# Altium integrated library TI Audio CODEC.IntLib: 199 symbols (part 8 of 17)
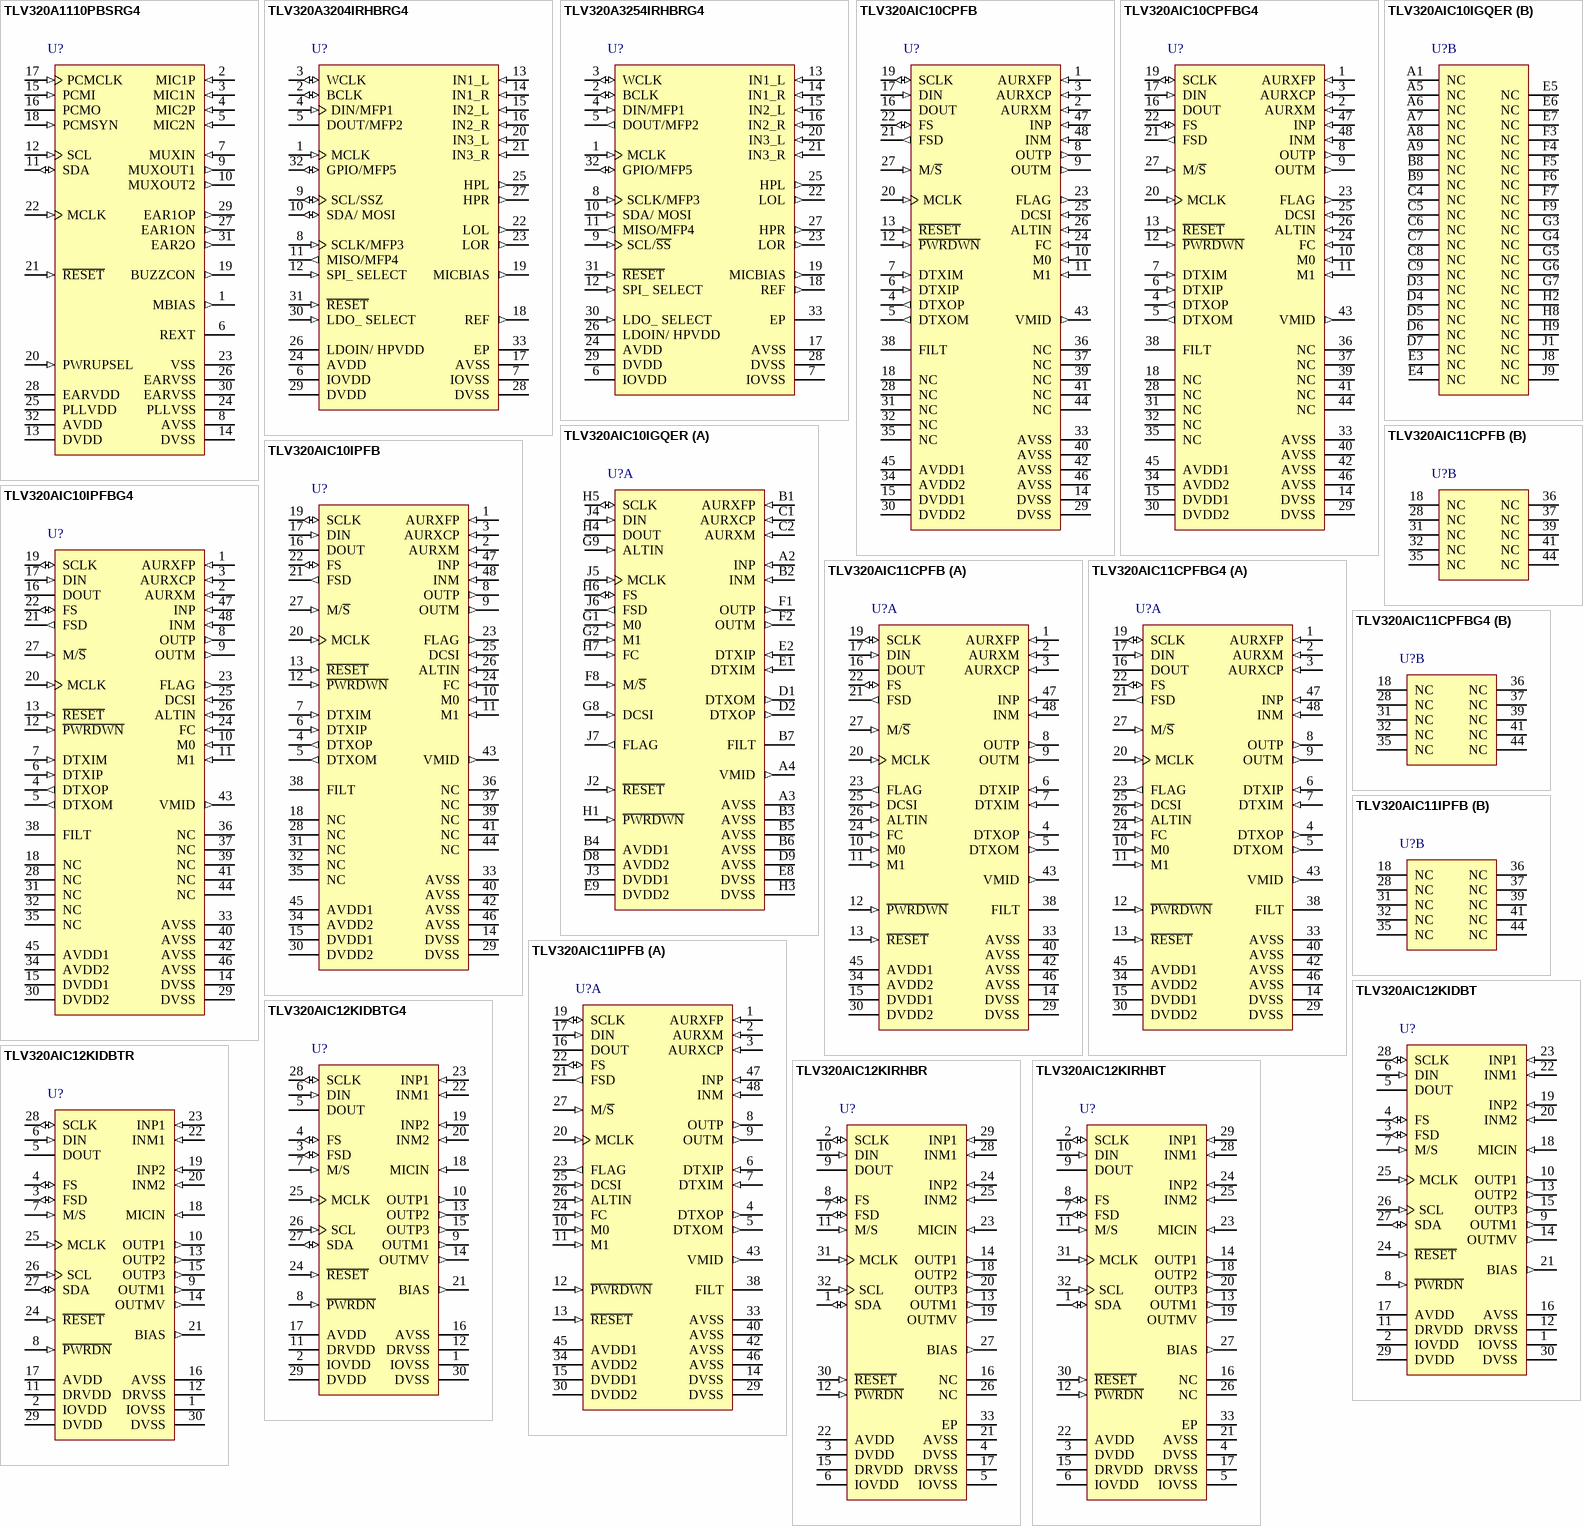
[diagram p20: symbols TLV320A1110PBSRG4 to TLV320AIC12KIRHBT]

## TLV320A1110PBSRG4
designator U?
Programmable PCM CODEC with Microphone Amps & Speaker Driver, 1 ADC and 1 DAC, -40 to 85 degC, 32-pin TQFP (PBS), Green (RoHS & no Sb/Br); Manufacturer: Texas Instruments; PartNumber: TLV320A1110PBSRG4; # ADCs (typ): 1; Additional Features: A-Law, u-Law; Battery Powered: TRUE; Control Interface: I2C; Sampling Rate (Max) (kHz): 8; DatasheetVersion: SLAS359; PackageVersion: Nov-1995; PackageReference: PBS32; PackageDescription: 32-Pin Thin Plastic Quad Flat Pack 0.5 mm Pitch; Supplier 1: Digi-Key; Supplier Part Number 1: TLV320A1110PBSRG4-ND; Supplier 2: Newark; Supplier Part Number 2: 33K7377; Supplier 3: Mouser; Supplier Part Number 3: 595-TLV320A1110PBSRG; # DACs: 1; Digital Audio Interfaces: PCM; Headphone Driver: TRUE; Mounting Technology: Surface Mount; Code_JEDEC: MS-026-AAA; ComponentLink1Description: Datasheet; ComponentLink1URL: http://www.ti.com/general/docs/lit/getliterature.tsp?genericPartNumber=TLV320AIC1110&fileType=pdf
footprint PBS32_N (Thin QFP, 32-Leads, Body 5x5mm, Pitch 0.5mm, IPC Medium Density)
footprint PBS32_L (Thin QFP, 32-Leads, Body 5x5mm, Pitch 0.5mm, IPC High Density)
footprint PBS32_M (Thin QFP, 32-Leads, Body 5x5mm, Pitch 0.5mm, IPC Low Density)
pins: 1 MBIAS (out) "Microphone bias supply output, no decoupling capacitors", 2 MIC1P (in) "MIC1 input (+)", 3 MIC1N (in) "MIC1 input (-)", 4 MIC2P (in) "MIC2 input (+)", 5 MIC2N (in) "MIC2 input (-)", 6 REXT "Internal reference current setting terminal (use precision 100-k ohm resistor and no filtering capacitors)", 7 MUXIN (in) "Analog MUX input", 8 AVSS (power) "Analog negative power supply (use for ground connection)", 9 MUXOUT1 (out) "Analog MUX output", 10 MUXOUT2 (out) "Analog MUX output", 11 SDA (io) "I2C-bus serial address/data input/output. This is a bidirectional terminal used to transfer register control addresses and data into and out of the codec. It is an open-drain terminal and therefore requires a pullup resistor (See Datasheet)", 12 SCL (in) "I2C-bus serial clock. This input is used to synchronize the data transfer from and to the PCM codec.", 13 DVDD (power) "Digital positive power supply", 14 DVSS (power) "Digital negative power supply", 15 PCMI (in) "Receive PCM input", 16 PCMO (hiz) "Transmit PCM output", 17 PCMCLK (in) "PCM data clock", 18 PCMSYN (in) "PCM frame sync", 19 BUZZCON (out) "Buzzer output, a pulse-density modulated signal to apply to external buzzer driver", 20 PWRUPSEL (in) "Selects the power-up default mode", 21 ~{RESET} (in) "Active low reset", 22 MCLK (in) "Master system clock input (2.048 MHz, digital)", 23 VSS (power) "Ground return for bandgap internal reference (use for ground connection)", 24 PLLVSS (power) "PLL negative power supply", 25 PLLVDD (power) "PLL digital power supply", 26 EARVSS (power) "Analog negative power supply for the earphone amplifiers", 27 EAR1ON (out) "Earphone 1 amplifier output (-)", 28 EARVDD (power) "Analog positive power supply for the earphone amplifiers", 29 EAR1OP (out) "Earphone 1 amplifier output (+)", 30 EARVSS (power) "Analog negative power supply for the earphone amplifiers", 31 EAR2O (out) "Earphone 2 amplifier output", 32 AVDD (power) "Analog positive power supply"

## TLV320A3204IRHBRG4
designator U?
Very Low-Power Stereo Audio CODEC with Power Tune™ Technology, 2 ADCs and 2 DACs, 100 dB DAC SNR, -40 to 85 degC, 32-pin QFN (RHB), Green (RoHS & no Sb/Br); Manufacturer: Texas Instruments; PartNumber: TLV320A3204IRHBRG4; # ADCs (typ): 2; Additional Features: PowerTune (tm), Processing blocks for digital audio effects, LP Bypass, PLL, Digital Mic Support, LDO; Battery Powered: TRUE; Control Interface: SPI, I2C; DAC SNR: 100; Digital Audio Interfaces: L, R, I2S, TDM, DSP; Sampling Rate (Max) (kHz): 192; DatasheetVersion: SLOS602A; PackageVersion: revD, Jun-2011; PackageReference: RHB32-3450X3450TP; PackageDescription: 32-Pin Plastic Quad Flat No-Lead, 5 x 5 mm Body, 0.5 mm Pitch, 3.45 x 3.45 mm Exposed Pad; Supplier 1: Digi-Key; Supplier Part Number 1: TLV320A3204IRHBRG4-ND; Supplier 2: Newark; Supplier Part Number 2: 34P6429; Supplier 3: Mouser; Supplier Part Number 3: 595-V320A3204IRHBRG4; # DACs: 2; Mounting Technology: Surface Mount; Code_JEDEC: MO-220; ComponentLink1Description: Datasheet; ComponentLink1URL: http://www.ti.com/general/docs/lit/getliterature.tsp?genericPartNumber=TLV320AIC3204&fileType=pdf
footprint RHB32-3450X3450TP (QFN, 32-Leads, Body 5x5mm, Pitch 0.5mm, Thermal Pad 3.45x3.45mm, TI Recommended)
pins: 1 MCLK (in) "Master Clock Input", 2 BCLK (io) "Audio serial data bus (primary) bit clock", 3 WCLK (io) "Audio serial data bus (primary) word clock", 4 DIN/MFP1 (in) "Primary function:Audio serial data bus data input;Secondary function:Audio serial data bus (secondary) bit clock input,Audio serial data bus (secondary) word clock input,Digital Microphone Input,Clock Input,General Purpose (See Datasheet)", 5 DOUT/MFP2 (hiz) "Primary:Audio serial data bus data output;Secondary:General Purpose Output,Clock Output,INT1 Output,INT2 Output,Audio serial data bus (secondary) bit clock output,Audio serial data bus (secondary) word clock output", 6 IOVDD (power) "I/O voltage supply 1.1V - 3.6V", 7 IOVSS (power) "I/O ground supply", 8 SCLK/MFP3 (in) "Primary (SPI_Select = 1):SPI serial clock;Secondary: (SPI_Select = 0):Headset-detect input,Digital microphone input,Audio serial data bus (secondary) bit clock input,Audio serial data bus (secondary) DAC/common word clock (See Datasheet)", 9 SCL/SSZ (io) "I2C interface serial clock (SPI_Select = 0);SPI interface mode chip-select signal (SPI_Select = 1)", 10 SDA/ MOSI (io) "I2C interface mode serial data input (SPI_Select = 0);SPI interface mode serial data input (SPI_Select = 1)", 11 MISO/MFP4 (out) "Primary (SPI_Select = 1):Serial data output;Secondary (SPI_Select = 0):General purpose output,CLKOUT output,INT1 output,INT2 output,Audio serial data bus (primary) ADC word clock output,Digital microphone clock output,Audio (See Datasheet)", 12 SPI_ SELECT (in) "Control mode select pin ( 1 = SPI, 0 = I2C )", 13 IN1_L (in) "Multifunction Analog Input,or Single-ended configuration: MIC 1 or Line 1 left or Differential configuration: MIC or Line right, negative", 14 IN1_R (in) "Multifunction Analog Input,or Single-ended configuration: MIC 1 or Line 1 right or Differential configuration: MIC or Line right, positive", 15 IN2_L (in) "Multifunction Analog Input,or Single-ended configuration: MIC 2 or Line 2 right or Differential configuration: MIC or Line left, positive", 16 IN2_R (in) "Multifunction Analog Input,or Single-ended configuration: MIC 2 or Line 2 right or Differential configuration: MIC or Line left,negtive", 17 AVSS (power) "Analog ground supply", 18 REF (out) "Reference voltage output for filtering", 19 MICBIAS (out) "Microphone bias voltage output", 20 IN3_L (in) "Multifunction Analog Input,or Single-ended configuration: MIC 3 or Line 3 left or Differential configuration: MIC or Line left,positive,or Differential configuration: MIC or Line right, negative", 21 IN3_R (in) "Multifunction Analog Input,or Single-ended configuration: MIC 3 or Line 3 right or Differential configuration: MIC or Line left,negative,or Differential configuration: MIC or Line right,positive", 22 LOL (out) "Left line output", 23 LOR (out) "Right line output", 24 AVDD (power) "Analog voltage supply 1.5V-1.95V,Input when A-LDO disabled,,Filtering output when A-LDO enabled", 25 HPL (out) "Left high power output driver", 26 LDOIN/ HPVDD (power) "LDO Input supply and Headphone Power supply 1.9V- 3.6V", 27 HPR (out) "Right high power output driver", 28 DVSS (power) "Digital Ground and Chip-substrate", 29 DVDD (power) "If LDO_SELECT Pin = 0 (D-LDO disabled),Digital voltage supply 1.26V - 1.95V;If LDO_SELECT Pin = 1 (D-LDO enabled),Digital voltage supply filtering output", 30 LDO_ SELECT (in) "connect to DVss.", 31 ~{RESET} (in) "Reset (active low)", 32 GPIO/MFP5 (io) "Primary:General Purpose digital IO;Secondary:CLKOUT Output,INT1 Output,INT2 Output,Audio serial data bus ADC word clock output,Audio serial data bus (secondary) bit clock output,Audio serial data bus (secondary) word clock (See Datasheet)", 33 EP "Exposed Thermal Pad"

## TLV320A3254IRHBRG4
designator U?
Very Low-Power Stereo Audio CODEC with miniDSP and Power Tune™ Technology, 2 ADCs and 2 DACs, 100 dB DAC SNR, -40 to 85 degC, 32-pin QFN (RHB), Green (RoHS & no Sb/Br); Manufacturer: Texas Instruments; PartNumber: TLV320A3254IRHBRG4; # ADCs (typ): 2; Additional Features: MiniDSP, PowerTune (tm), LP Bypass, PLL, Digital Mic Support, LDO (for single supply operation up to 3.6V); Battery Powered: TRUE; Control Interface: SPI, I2C; DAC SNR: 100; Digital Audio Interfaces: L, R, I2S, TDM, DSP; Sampling Rate (Max) (kHz): 192; DatasheetVersion: SLAS549B; PackageVersion: revD, Jun-2011; PackageReference: RHB32-3450X3450TP; PackageDescription: 32-Pin Plastic Quad Flat No-Lead, 5 x 5 mm Body, 0.5 mm Pitch, 3.45 x 3.45 mm Exposed Pad; Supplier 1: Digi-Key; Supplier Part Number 1: TLV320A3254IRHBRG4-ND; Supplier 2: Newark; Supplier Part Number 2: 34P6430; Supplier 3: Mouser; Supplier Part Number 3: 595-V320A3254IRHBRG4; # DACs: 2; Mounting Technology: Surface Mount; Code_JEDEC: MO-220; ComponentLink1Description: Datasheet; ComponentLink1URL: http://www.ti.com/general/docs/lit/getliterature.tsp?genericPartNumber=TLV320AIC3254&fileType=pdf
footprint RHB32-3450X3450TP (QFN, 32-Leads, Body 5x5mm, Pitch 0.5mm, Thermal Pad 3.45x3.45mm, TI Recommended)
pins: 1 MCLK (in) "Master Clock Input", 2 BCLK (io) "Audio serial data bus (primary) bit clock", 3 WCLK (io) "Audio serial data bus (primary) word clock", 4 DIN/MFP1 (in) "Primary function: Audio serial data bus data input. Secondary function:Audio serial data bus (secondary) bit clock input;Audio serial data bus (secondary) word clock input; Digital Microphone Input; Clock Input; General (See Datasheet)", 5 DOUT/MFP2 (out) "Primary: Audio serial data bus data output. Secondary: General Purpose Output; Clock Output; INT1 Output; INT2 Output; Audio serial data bus (secondary) bit clock output; Audio serial data bus (secondary) word clock output.", 6 IOVDD (power) "I/O voltage supply 1.1V - 3.6V", 7 IOVSS (power) "I/O ground supply", 8 SCLK/MFP3 (in) "Primary (SPI_Select = 1): SPI serial clock. Secondary(SPI_Select = 0): Headset-detect input; Digital microphone input; Audio serial data bus (secondary) bit clock input ;Audio serial data bus (secondary) DAC/common word (See Datasheet)", 9 SCL/~{SS} (in) "I2C interface serial clock (SPI_Select = 0);SPI interface mode chip-select signal (SPI_Select = 1)", 10 SDA/ MOSI (in) "I2C interface mode serial data input (SPI_Select = 0); SPI interface mode serial data input (SPI_Select = 1)", 11 MISO/MFP4 (out) "Primary (SPI_Select = 1): Serial data output.Secondary (SPI_Select = 0): General purpose output; CLKOUT output; INT1 output ;INT2 output; Audio serial data bus (primary) ADC word clock output ;Digital microphone clock output (See Datasheet)", 12 SPI_ SELECT (in) "Control mode select pin ( 1 = SPI, 0 = I2C )", 13 IN1_L (in) "Multifunction Analog Input, or Single-ended configuration: MIC 1 or Line 1 left or Differential configuration: MIC or Line right, negative", 14 IN1_R (in) "Multifunction Analog Input, or Single-ended configuration: MIC 1 or Line 1 right or Differential configuration: MIC or Line right, positive", 15 IN2_L (in) "Multifunction Analog Input, or Single-ended configuration: MIC 2 or Line 2 right or Differential configuration: MIC or Line left, positive", 16 IN2_R (in) "Multifunction Analog Input, or Single-ended configuration: MIC 2 or Line 2 right or Differential configuration: MIC or Line left, negative", 17 AVSS (power) "Analog ground supply", 18 REF (out) "Reference voltage output for filtering", 19 MICBIAS (out) "Microphone bias voltage output", 20 IN3_L (in) "Multifunction Analog Input, or Single-ended configuration: MIC3 or Line 3 left, or Differential configuration: MIC or Line left, positive, or Differential configuration: MIC or Line right, negative", 21 IN3_R (in) "Multifunction Analog Input, or Single-ended configuration: MIC3 or Line 3 right, or Differential configuration: MIC or Line left, negative, or Differential configuration: MIC or Line right, positive", 22 LOL (out) "Left line output", 23 LOR (out) "Right line output", 24 AVDD (power) "Analog voltage supply 1.5V-1.95V Input when A-LDO disabled, Filtering output when A-LDO enabled", 25 HPL (out) "Left high power output driver", 26 LDOIN/ HPVDD (power) "LDO Input supply and Headphone Power supply 1.9V- 3.6V", 27 HPR (out) "Right high power output driver", 28 DVSS (power) "Digital Ground and Chip-substrate", 29 DVDD (power) "If LDO_SELECT Pin = 0 (D-LDO disabled) Digital voltage supply 1.26V - 1.95V, If LDO_SELECT Pin = 1 (D-LDO enabled) Digital voltage supply filtering output", 30 LDO_ SELECT (in) "connect to DVss", 31 ~{RESET} (in) "Reset (active low)", 32 GPIO/MFP5 (io) "Primary: General Purpose digital IO.Secondary: CLKOUT Output; INT1 Output; INT2 Output; Audio serial data bus ADC word clock output ;Audio serial data bus (secondary) bit clock output ;Audio serial data bus (secondary) word (See Datasheet)", 33 EP "Exposed Thermal Pad"

## TLV320AIC10CPFB
designator U?
Low-Power Mono Voice Band CODEC with 1 ADC and 1 DAC, 90 dB DAC SNR, 0 to 70 degC, 48-pin TQFP (PFB), Green (RoHS & no Sb/Br); Manufacturer: Texas Instruments; PartNumber: TLV320AIC10CPFB; # ADCs (typ): 1; Battery Powered: TRUE; Control Interface: H/W; DAC SNR: 90; Digital Audio Interfaces: DSP; Sampling Rate (Max) (kHz): 22.05; DatasheetVersion: SLWS093F; PackageVersion: Jan-1998; PackageReference: PFB48; PackageDescription: 48-Pin Thin Plastic Quad Flat Pack 0.5 mm Pitch; Supplier 1: Digi-Key; Supplier Part Number 1: 296-2214-ND; Supplier 2: Newark; Supplier Part Number 2: 76C8692; Supplier 3: Mouser; Supplier Part Number 3: 595-TLV320AIC10CPFB; # DACs: 1; Mounting Technology: Surface Mount; Code_JEDEC: MS-026; ComponentLink1Description: Datasheet; ComponentLink1URL: http://www.ti.com/general/docs/lit/getliterature.tsp?genericPartNumber=TLV320AIC10&fileType=pdf
footprint PFB48_N (Thin QFP, 48-Leads, Body 7x7mm, Pitch 0.5mm, IPC Medium Density)
footprint PFB48_L (Thin QFP, 48-Leads, Body 7x7mm, Pitch 0.5mm, IPC High Density)
footprint PFB48_M (Thin QFP, 48-Leads, Body 7x7mm, Pitch 0.5mm, IPC Low Density)
pins: 1 AURXFP (in) "Receiver-path amplifier A1 feedback, or noninverting input to auxiliary analog input. It needs to be connected to AVSS if not used. Can also be used for general-purpose amplification.", 2 AURXM (in) "Receiver-path amplifier A1 inverting input, or inverting input to auxiliary analog input. It needs to be connected to AVSS if not used. Can also be used for general-purpose amplification.", 3 AURXCP (in) "Receiver-path/GP amplifier noninverting input. It needs to be connected to AVSS if not used.", 4 DTXOP (out) "Transmitter path amplifier A3 feedback for positive output. Can also be used for negative output", 5 DTXOM (out) "Transmitter path amplifier A4 feedback for negative output. Can also be used for general-purpose amplification.", 6 DTXIP (in) "Transmitter-path amplifier A4 analog noninverting input. Can also be used for general-purpose amplification.", 7 DTXIM (in) "Transmitter-path amplifier A3 analog inverting input. Can also be used for general-purpose amplification.", 8 OUTP (out) "DACs noninverting output. OUTP can also be used alone for single-ended operation.", 9 OUTM (out) "DACs inverting output. OUTM is functionally identical with and complementary to OUTP.", 10 M0 (in) "Combine with M1 to select serial interface mode (frame-sync mode)", 11 M1 (in) "Combine with M0 to select serial interface mode (frame-sync mode)", 12 ~{PWRDW}~{N} (in) "Power down. When P\W\R\D\W\N\ is pulled low, the device goes into a power-down mode, the serial interface is disabled, and most of the high-speed clocks are disabled. However, all register values are sustained and the device (See Datasheet)", 13 ~{RESET} (in) "The reset function is provided to initialize all the internal registers to their default values. The serial port can be configured to the default state accordingly. See Appendix A, Register Set, and Subsection 2.2,  Reset (See Datasheet)", 14 DVSS (power) "Digital ground", 15 DVDD1 (power) "Digital power supply", 16 DOUT (hiz) "Data output. DOUT transmits the ADC output bits and registers data, and is synchronized to SCLK and FS. Data is sent out at the rising edge of SCLK when FS is low. DOUT is at high impedance when FS is not activated.", 17 DIN (in) "Data input. DIN receives the DAC input data and register data from the external digital signal processor (DSP), and is synchronized to SCLK and FS. Data is latched at the falling edge of SCLK when FS is low. DIN is at high (See Datasheet)", 18 NC "No connection", 19 SCLK (io) "Shift clock. SCLK signal clocks serial data into DIN and out of DOUT during the frame-sync interval. When configured as an output (M/S\ high), SCLK is generated internally by multiplying the frame-sync signal frequency by (See Datasheet)", 20 MCLK (in) "Master clock. MCLK derives the internal clocks of the sigma-delta analog interface circuit.", 21 FSD (out) "Frame-sync delayed output. The FSD output synchronizes a slave device to the frame sync of the master device. FSD is applied to the slave FS input and has the same duration as the master FS signal. Requires a pullup resistor (See Datasheet)", 22 FS (io) "Frame sync. When FS goes low, DIN begins receiving data bits and DOUT begins transmitting data bits. In master mode, FS is internally generated and is low during data transmission to DIN and from DOUT. In slave mode, FS is (See Datasheet)", 23 FLAG (out) "Controlled by bit D4 of control register 3. If D4=0 (default), the FLAG pin outputs the communication flag that goes low/high to indicate primary-communication/secondary-communication interval,respectively. If D4=1, the FLAG (See Datasheet)", 24 FC (in) "Hardware request for secondary communication. Tie this pin to low if not used.", 25 DCSI (in) "Direct configuration serial input for directly programming of internal control registers. Tie this pin to high if not used.", 26 ALTIN (in) "Serial input in the event monitor mode. Tie this pin to low if not used.", 27 M/~{S} (in) "Master/slave select input. When M/S\ is high, the device is the master, and when is low, it is a slave.", 28 NC "No connection", 29 DVSS (power) "Digital ground", 30 DVDD2 (power) "Digital power supply", 31 NC "No connection", 32 NC "No connection", 33 AVSS (power) "Analog ground", 34 AVDD2 (power) "Analog power supply", 35 NC "No connection", 36 NC "No connection", 37 NC "No connection", 38 FILT "Bandgap filter. FILT is provided for decoupling of the bandgap reference, and provides 2.5 V. The optimal capacitor value is 0.1  µF (ceramic). This voltage node should be loaded only with a high-impedance dc load.", 39 NC "No connection", 40 AVSS (power) "Analog ground", 41 NC "No connection", 42 AVSS (power) "Analog ground", 43 VMID (out) "Reference voltage output at AVDD/2", 44 NC "No connection", 45 AVDD1 (power) "Analog power supply", 46 AVSS (power) "Analog ground", 47 INP (in) "Noninverting input to analog modulator. INP requires an external R-C antialias filter with low output impedance if the internal antialias filter is bypassed.", 48 INM (in) "Inverting input to analog modulator. INM requires an external R-C antialias filter with low output impedance if the internal antialias filter is bypassed."

## TLV320AIC10CPFBG4
designator U?
Low-Power Mono Voice Band CODEC with 1 ADC and 1 DAC, 90 dB DAC SNR, 0 to 70 degC, 48-pin TQFP (PFB), Green (RoHS & no Sb/Br); Manufacturer: Texas Instruments; PartNumber: TLV320AIC10CPFBG4; # ADCs (typ): 1; Battery Powered: TRUE; Control Interface: H/W; DAC SNR: 90; Digital Audio Interfaces: DSP; Sampling Rate (Max) (kHz): 22.05; DatasheetVersion: SLWS093F; PackageVersion: Jan-1998; PackageReference: PFB48; PackageDescription: 48-Pin Thin Plastic Quad Flat Pack 0.5 mm Pitch; Supplier 1: Digi-Key; Supplier Part Number 1: TLV320AIC10CPFBG4-ND; Supplier 2: Newark; Supplier Part Number 2: 80K3314; Supplier 3: Mouser; Supplier Part Number 3: 595-TLV320AIC10CPFBG; # DACs: 1; Mounting Technology: Surface Mount; Code_JEDEC: MS-026; ComponentLink1Description: Datasheet; ComponentLink1URL: http://www.ti.com/general/docs/lit/getliterature.tsp?genericPartNumber=TLV320AIC10&fileType=pdf
footprint PFB48_N (Thin QFP, 48-Leads, Body 7x7mm, Pitch 0.5mm, IPC Medium Density)
footprint PFB48_L (Thin QFP, 48-Leads, Body 7x7mm, Pitch 0.5mm, IPC High Density)
footprint PFB48_M (Thin QFP, 48-Leads, Body 7x7mm, Pitch 0.5mm, IPC Low Density)
pins: 1 AURXFP (in) "Receiver-path amplifier A1 feedback, or noninverting input to auxiliary analog input. It needs to be connected to AVSS if not used. Can also be used for general-purpose amplification.", 2 AURXM (in) "Receiver-path amplifier A1 inverting input, or inverting input to auxiliary analog input. It needs to be connected to AVSS if not used. Can also be used for general-purpose amplification.", 3 AURXCP (in) "Receiver-path/GP amplifier noninverting input. It needs to be connected to AVSS if not used.", 4 DTXOP (out) "Transmitter path amplifier A3 feedback for positive output. Can also be used for negative output", 5 DTXOM (out) "Transmitter path amplifier A4 feedback for negative output. Can also be used for general-purpose amplification.", 6 DTXIP (in) "Transmitter-path amplifier A4 analog noninverting input. Can also be used for general-purpose amplification.", 7 DTXIM (in) "Transmitter-path amplifier A3 analog inverting input. Can also be used for general-purpose amplification.", 8 OUTP (out) "DACs noninverting output. OUTP can also be used alone for single-ended operation.", 9 OUTM (out) "DACs inverting output. OUTM is functionally identical with and complementary to OUTP.", 10 M0 (in) "Combine with M1 to select serial interface mode (frame-sync mode)", 11 M1 (in) "Combine with M0 to select serial interface mode (frame-sync mode)", 12 ~{PWRDW}~{N} (in) "Power down. When P\W\R\D\W\N\ is pulled low, the device goes into a power-down mode, the serial interface is disabled, and most of the high-speed clocks are disabled. However, all register values are sustained and the device (See Datasheet)", 13 ~{RESET} (in) "The reset function is provided to initialize all the internal registers to their default values. The serial port can be configured to the default state accordingly. See Appendix A, Register Set, and Subsection 2.2,  Reset (See Datasheet)", 14 DVSS (power) "Digital ground", 15 DVDD1 (power) "Digital power supply", 16 DOUT (hiz) "Data output. DOUT transmits the ADC output bits and registers data, and is synchronized to SCLK and FS. Data is sent out at the rising edge of SCLK when FS is low. DOUT is at high impedance when FS is not activated.", 17 DIN (in) "Data input. DIN receives the DAC input data and register data from the external digital signal processor (DSP), and is synchronized to SCLK and FS. Data is latched at the falling edge of SCLK when FS is low. DIN is at high (See Datasheet)", 18 NC "No connection", 19 SCLK (io) "Shift clock. SCLK signal clocks serial data into DIN and out of DOUT during the frame-sync interval. When configured as an output (M/S\ high), SCLK is generated internally by multiplying the frame-sync signal frequency by (See Datasheet)", 20 MCLK (in) "Master clock. MCLK derives the internal clocks of the sigma-delta analog interface circuit.", 21 FSD (out) "Frame-sync delayed output. The FSD output synchronizes a slave device to the frame sync of the master device. FSD is applied to the slave FS input and has the same duration as the master FS signal. Requires a pullup resistor (See Datasheet)", 22 FS (io) "Frame sync. When FS goes low, DIN begins receiving data bits and DOUT begins transmitting data bits. In master mode, FS is internally generated and is low during data transmission to DIN and from DOUT. In slave mode, FS is (See Datasheet)", 23 FLAG (out) "Controlled by bit D4 of control register 3. If D4=0 (default), the FLAG pin outputs the communication flag that goes low/high to indicate primary-communication/secondary-communication interval,respectively. If D4=1, the FLAG (See Datasheet)", 24 FC (in) "Hardware request for secondary communication. Tie this pin to low if not used.", 25 DCSI (in) "Direct configuration serial input for directly programming of internal control registers. Tie this pin to high if not used.", 26 ALTIN (in) "Serial input in the event monitor mode. Tie this pin to low if not used.", 27 M/~{S} (in) "Master/slave select input. When M/S\ is high, the device is the master, and when is low, it is a slave.", 28 NC "No connection", 29 DVSS (power) "Digital ground", 30 DVDD2 (power) "Digital power supply", 31 NC "No connection", 32 NC "No connection", 33 AVSS (power) "Analog ground", 34 AVDD2 (power) "Analog power supply", 35 NC "No connection", 36 NC "No connection", 37 NC "No connection", 38 FILT "Bandgap filter. FILT is provided for decoupling of the bandgap reference, and provides 2.5 V. The optimal capacitor value is 0.1  µF (ceramic). This voltage node should be loaded only with a high-impedance dc load.", 39 NC "No connection", 40 AVSS (power) "Analog ground", 41 NC "No connection", 42 AVSS (power) "Analog ground", 43 VMID (out) "Reference voltage output at AVDD/2", 44 NC "No connection", 45 AVDD1 (power) "Analog power supply", 46 AVSS (power) "Analog ground", 47 INP (in) "Noninverting input to analog modulator. INP requires an external R-C antialias filter with low output impedance if the internal antialias filter is bypassed.", 48 INM (in) "Inverting input to analog modulator. INM requires an external R-C antialias filter with low output impedance if the internal antialias filter is bypassed."

## TLV320AIC10IGQER
designator U?
Low-Power Mono Voice Band CODEC with 1 ADC and 1 DAC, 90 dB DAC SNR, -40 to 85 degC, 80-pin BGA MICROSTAR JUNIOR (GQE); Manufacturer: Texas Instruments; PartNumber: TLV320AIC10IGQER; # ADCs (typ): 1; Battery Powered: TRUE; Control Interface: H/W; DAC SNR: 90; Digital Audio Interfaces: DSP; Sampling Rate (Max) (kHz): 22.05; DatasheetVersion: SLWS093F; PackageVersion: Oct-2005; PackageReference: GQE80; PackageDescription: 80-Ball Plastic Ball Grid Array, 5 x 5 mm Body, 0.5 mm Pitch; Supplier 1: Digi-Key; Supplier Part Number 1: 296-13374-2-ND; Supplier 2: Digi-Key; Supplier Part Number 2: 296-13374-1-ND; Supplier 3: Digi-Key; Supplier Part Number 3: 296-13374-6-ND; Supplier 4: Newark; Supplier Part Number 4: 76C8693; Supplier 5: Mouser; Supplier Part Number 5: 595-TLV320AIC10IGQER; # DACs: 1; Mounting Technology: Surface Mount; Code_JEDEC: MO-225; ComponentLink1Description: Datasheet; ComponentLink1URL: http://www.ti.com/general/docs/lit/getliterature.tsp?genericPartNumber=TLV320AIC10&fileType=pdf
footprint GQE80 (BGA, 80-Leads, Body 5x5mm, Pitch 0.5mm)
part A pins: A2 INP (in) "Noninverting input to analog modulator. INP requires an external R-C antialias filter with low output impedance if the internal antialias filter is bypassed.", A3 AVSS (power) "Analog ground", A4 VMID (out) "Reference voltage output at AVDD/2", B1 AURXFP (in) "Receiver-path amplifier A1 feedback, or noninverting input to auxiliary analog input. It needs to be connected to AVSS if not used.Can also be used for general-purpose amplification.", B2 INM (in) "Inverting input to analog modulator. INM requires an external R-C antialias filter with low output impedance if the internal antialias filter is bypassed.", B3 AVSS (power) "Analog ground", B4 AVDD1 (power) "Analog power supply", B5 AVSS (power) "Analog ground", B6 AVSS (power) "Analog ground", B7 FILT "Bandgap filter. FILT is provided for decoupling of the bandgap reference, and provides 2.5 V. The optimal capacitor value is 0.1 uF (ceramic). This voltage node should be loaded only with a high-impedance dc load.", C1 AURXCP (in) "Receiver-path/GP amplifier noninverting input. It needs to be connected to AVSS if not used.", C2 AURXM (in) "Receiver-path amplifier A1 inverting input, or inverting input to auxiliary analog input. It needs to be connected  to AVSS if not used.Can also be used for general-purpose amplification.", D1 DTXOM (out) "Transmitter path amplifier A4 feedback for negative output. Can also be used for general-purpose amplification.", D2 DTXOP (out) "Transmitter path amplifier A3 feedback for positive output.Can also be used for negative output.", D8 AVDD2 (power) "Analog power supply", D9 AVSS (power) "Analog ground", E1 DTXIM (in) "Transmitter-path amplifier A3 analog inverting input. Can also be used for general-purpose amplification.", E2 DTXIP (in) "Transmitter-path amplifier A4 analog noninverting input. Can also be used for general-purpose amplification.", E8 DVSS (power) "Digital ground", E9 DVDD2 (power) "Digital power supply", F1 OUTP (out) "DACs noninverting output. OUTP can also be used alone for single-ended operation.", F2 OUTM (out) "DACs inverting output. OUTM is functionally identical with and complementary to OUTP.", F8 M/~{S} (in) "Master/slave select input. When M/S\ is high, the device is the master, and when is low, it is a slave.", G1 M0 (in) "Combine with M1 to select serial interface mode (frame-sync mode)", G2 M1 (in) "Combine with M0 to select serial interface mode (frame-sync mode)", G8 DCSI (in) "Direct configuration serial input for directly programming of internal control registers. Tie this pin to high if not used.", G9 ALTIN (in) "Serial input in the event monitor mode. Tie this pin to low if not used.", H1 ~{PWRDWN} (in) "Power down. When P\W\R\D\W\N\ is pulled low, the device goes into a power-down mode, the serial interface is disabled, and most of the high-speed clocks are disabled. However, all register values are sustained and the device (See Datasheet)", H3 DVSS (power) "Digital ground", H4 DOUT (hiz) "Data output. DOUT transmits the ADC output bits and registers data, and is synchronized to SCLK and FS.Data is sent out at the rising edge of SCLK when FS is low.DOUT is at high impedance when FS is not actived.", H5 SCLK (io) "Shift clock. SCLK signal clocks serial data into DIN and out of DOUT during the frame-sync interval.When configured as an output (M/S\ high), SCLK is generated internally by multiplying the frame-sync signal frequency by 256 (See Datasheet)", H6 FS (io) "Frame sync. When FS goes low, DIN begins receiving data bits and DOUT begins transmitting data bits. In master mode, FS is internally generated and is low during data transmission to DIN and from DOUT. In slave mode, FS is (See Datasheet)", H7 FC (in) "Hardware request for secondary communication. Tie this pin to low if not used.", J2 ~{RESET} (in) "The reset function is provided to initialize all the internal registers to their default values. The serial port can be configured to the default state accordingly. See Appendix A, Register Set, and Subsection 2.2, Reset and (See Datasheet)", J3 DVDD1 (power) "Digital power supply", J4 DIN (in) "Data input. DIN receives the DAC input data and register data from the external digital signal processor(DSP),and is synchronized to SCLK and FS.Data is latched at the falling edge of SCLK when FS is low.DIN  is at high (See Datasheet)", J5 MCLK (in) "Master clock. MCLK derives the internal clocks of the sigma-delta analog interface circuit.", J6 FSD (out) "Frame-sync delayed output. The FSD output synchronizes a slave device to the frame sync of the master device. FSD is applied to the slave FS input and has the same duration as the master FS signal. Requires a pullup resistor (See Datasheet)", J7 FLAG (out) "Controlled by bit D4 of control register 3. If D4=0 (default), the FLAG pin outputs the communication flag that goes low/high to indicate primary-communication/secondary-communication interval,respectively. If D4=1, the FLAG (See Datasheet)"
part B pins: A1 NC "No connection", A5 NC "No connection", A6 NC "No connection", A7 NC "No connection", A8 NC "No connection", A9 NC "No connection", B8 NC "No connection", B9 NC "No connection", C4 NC "No connection", C5 NC "No connection", C6 NC "No connection", C7 NC "No connection", C8 NC "No connection", C9 NC "No connection", D3 NC "No connection", D4 NC "No connection", D5 NC "No connection", D6 NC "No connection", D7 NC "No connection", E3 NC "No connection", E4 NC "No connection", E5 NC "No connection", E6 NC "No connection", E7 NC "No connection", F3 NC "No connection", F4 NC "No connection", F5 NC "No connection", F6 NC "No connection", F7 NC "No connection", F9 NC "No connection", G3 NC "No connection", G4 NC "No connection", G5 NC "No connection", G6 NC "No connection", G7 NC "No connection", H2 NC "No connection", H8 NC "No connection", H9 NC "No connection", J1 NC "No connection", J8 NC "No connection", J9 NC "No connection"

## TLV320AIC10IPFB
designator U?
Low-Power Mono Voice Band CODEC with 1 ADC and 1 DAC, 90 dB DAC SNR, -40 to 85 degC, 48-pin TQFP (PFB), Green (RoHS & no Sb/Br); Manufacturer: Texas Instruments; PartNumber: TLV320AIC10IPFB; # ADCs (typ): 1; Battery Powered: TRUE; Control Interface: H/W; DAC SNR: 90; Digital Audio Interfaces: DSP; Sampling Rate (Max) (kHz): 22.05; DatasheetVersion: SLWS093F; PackageVersion: Jan-1998; PackageReference: PFB48; PackageDescription: 48-Pin Thin Plastic Quad Flat Pack 0.5 mm Pitch; Supplier 1: Digi-Key; Supplier Part Number 1: 296-10702-ND; Supplier 2: Farnell; Supplier Part Number 2: 9543457; Supplier 3: Newark; Supplier Part Number 3: 27C3765; Supplier 4: Mouser; Supplier Part Number 4: 595-TLV320AIC10IPFB; # DACs: 1; Mounting Technology: Surface Mount; Code_JEDEC: MS-026; ComponentLink1Description: Datasheet; ComponentLink1URL: http://www.ti.com/general/docs/lit/getliterature.tsp?genericPartNumber=TLV320AIC10&fileType=pdf
footprint PFB48_N (Thin QFP, 48-Leads, Body 7x7mm, Pitch 0.5mm, IPC Medium Density)
footprint PFB48_L (Thin QFP, 48-Leads, Body 7x7mm, Pitch 0.5mm, IPC High Density)
footprint PFB48_M (Thin QFP, 48-Leads, Body 7x7mm, Pitch 0.5mm, IPC Low Density)
pins: 1 AURXFP (in) "Receiver-path amplifier A1 feedback, or noninverting input to auxiliary analog input. It needs to be connected to AVSS if not used. Can also be used for general-purpose amplification.", 2 AURXM (in) "Receiver-path amplifier A1 inverting input, or inverting input to auxiliary analog input. It needs to be connected to AVSS if not used. Can also be used for general-purpose amplification.", 3 AURXCP (in) "Receiver-path/GP amplifier noninverting input. It needs to be connected to AVSS if not used.", 4 DTXOP (out) "Transmitter path amplifier A3 feedback for positive output. Can also be used for negative output", 5 DTXOM (out) "Transmitter path amplifier A4 feedback for negative output. Can also be used for general-purpose amplification.", 6 DTXIP (in) "Transmitter-path amplifier A4 analog noninverting input. Can also be used for general-purpose amplification.", 7 DTXIM (in) "Transmitter-path amplifier A3 analog inverting input. Can also be used for general-purpose amplification.", 8 OUTP (out) "DACs noninverting output. OUTP can also be used alone for single-ended operation.", 9 OUTM (out) "DACs inverting output. OUTM is functionally identical with and complementary to OUTP.", 10 M0 (in) "Combine with M1 to select serial interface mode (frame-sync mode)", 11 M1 (in) "Combine with M0 to select serial interface mode (frame-sync mode)", 12 ~{PWRDW}~{N} (in) "Power down. When P\W\R\D\W\N\ is pulled low, the device goes into a power-down mode, the serial interface is disabled, and most of the high-speed clocks are disabled. However, all register values are sustained and the device (See Datasheet)", 13 ~{RESET} (in) "The reset function is provided to initialize all the internal registers to their default values. The serial port can be configured to the default state accordingly. See Appendix A, Register Set, and Subsection 2.2,  Reset (See Datasheet)", 14 DVSS (power) "Digital ground", 15 DVDD1 (power) "Digital power supply", 16 DOUT (hiz) "Data output. DOUT transmits the ADC output bits and registers data, and is synchronized to SCLK and FS. Data is sent out at the rising edge of SCLK when FS is low. DOUT is at high impedance when FS is not activated.", 17 DIN (in) "Data input. DIN receives the DAC input data and register data from the external digital signal processor (DSP), and is synchronized to SCLK and FS. Data is latched at the falling edge of SCLK when FS is low. DIN is at high (See Datasheet)", 18 NC "No connection", 19 SCLK (io) "Shift clock. SCLK signal clocks serial data into DIN and out of DOUT during the frame-sync interval. When configured as an output (M/S\ high), SCLK is generated internally by multiplying the frame-sync signal frequency by (See Datasheet)", 20 MCLK (in) "Master clock. MCLK derives the internal clocks of the sigma-delta analog interface circuit.", 21 FSD (out) "Frame-sync delayed output. The FSD output synchronizes a slave device to the frame sync of the master device. FSD is applied to the slave FS input and has the same duration as the master FS signal. Requires a pullup resistor (See Datasheet)", 22 FS (io) "Frame sync. When FS goes low, DIN begins receiving data bits and DOUT begins transmitting data bits. In master mode, FS is internally generated and is low during data transmission to DIN and from DOUT. In slave mode, FS is (See Datasheet)", 23 FLAG (out) "Controlled by bit D4 of control register 3. If D4=0 (default), the FLAG pin outputs the communication flag that goes low/high to indicate primary-communication/secondary-communication interval,respectively. If D4=1, the FLAG (See Datasheet)", 24 FC (in) "Hardware request for secondary communication. Tie this pin to low if not used.", 25 DCSI (in) "Direct configuration serial input for directly programming of internal control registers. Tie this pin to high if not used.", 26 ALTIN (in) "Serial input in the event monitor mode. Tie this pin to low if not used.", 27 M/~{S} (in) "Master/slave select input. When M/S\ is high, the device is the master, and when is low, it is a slave.", 28 NC "No connection", 29 DVSS (power) "Digital ground", 30 DVDD2 (power) "Digital power supply", 31 NC "No connection", 32 NC "No connection", 33 AVSS (power) "Analog ground", 34 AVDD2 (power) "Analog power supply", 35 NC "No connection", 36 NC "No connection", 37 NC "No connection", 38 FILT "Bandgap filter. FILT is provided for decoupling of the bandgap reference, and provides 2.5 V. The optimal capacitor value is 0.1  µF (ceramic). This voltage node should be loaded only with a high-impedance dc load.", 39 NC "No connection", 40 AVSS (power) "Analog ground", 41 NC "No connection", 42 AVSS (power) "Analog ground", 43 VMID (out) "Reference voltage output at AVDD/2", 44 NC "No connection", 45 AVDD1 (power) "Analog power supply", 46 AVSS (power) "Analog ground", 47 INP (in) "Noninverting input to analog modulator. INP requires an external R-C antialias filter with low output impedance if the internal antialias filter is bypassed.", 48 INM (in) "Inverting input to analog modulator. INM requires an external R-C antialias filter with low output impedance if the internal antialias filter is bypassed."

## TLV320AIC10IPFBG4
designator U?
Low-Power Mono Voice Band CODEC with 1 ADC and 1 DAC, 90 dB DAC SNR, -40 to 85 degC, 48-pin TQFP (PFB), Green (RoHS & no Sb/Br); Manufacturer: Texas Instruments; PartNumber: TLV320AIC10IPFBG4; # ADCs (typ): 1; Battery Powered: TRUE; Control Interface: H/W; DAC SNR: 90; Digital Audio Interfaces: DSP; Sampling Rate (Max) (kHz): 22.05; DatasheetVersion: SLWS093F; PackageVersion: Jan-1998; PackageReference: PFB48; PackageDescription: 48-Pin Thin Plastic Quad Flat Pack 0.5 mm Pitch; Supplier 1: Digi-Key; Supplier Part Number 1: TLV320AIC10IPFBG4-ND; Supplier 2: Farnell; Supplier Part Number 2: 1234984; Supplier 3: Newark; Supplier Part Number 3: 80K3315; Supplier 4: Mouser; Supplier Part Number 4: 595-TLV320AIC10IPFBG; # DACs: 1; Mounting Technology: Surface Mount; Code_JEDEC: MS-026; ComponentLink1Description: Datasheet; ComponentLink1URL: http://www.ti.com/general/docs/lit/getliterature.tsp?genericPartNumber=TLV320AIC10&fileType=pdf
footprint PFB48_N (Thin QFP, 48-Leads, Body 7x7mm, Pitch 0.5mm, IPC Medium Density)
footprint PFB48_L (Thin QFP, 48-Leads, Body 7x7mm, Pitch 0.5mm, IPC High Density)
footprint PFB48_M (Thin QFP, 48-Leads, Body 7x7mm, Pitch 0.5mm, IPC Low Density)
pins: 1 AURXFP (in) "Receiver-path amplifier A1 feedback, or noninverting input to auxiliary analog input. It needs to be connected to AVSS if not used. Can also be used for general-purpose amplification.", 2 AURXM (in) "Receiver-path amplifier A1 inverting input, or inverting input to auxiliary analog input. It needs to be connected to AVSS if not used. Can also be used for general-purpose amplification.", 3 AURXCP (in) "Receiver-path/GP amplifier noninverting input. It needs to be connected to AVSS if not used.", 4 DTXOP (out) "Transmitter path amplifier A3 feedback for positive output. Can also be used for negative output", 5 DTXOM (out) "Transmitter path amplifier A4 feedback for negative output. Can also be used for general-purpose amplification.", 6 DTXIP (in) "Transmitter-path amplifier A4 analog noninverting input. Can also be used for general-purpose amplification.", 7 DTXIM (in) "Transmitter-path amplifier A3 analog inverting input. Can also be used for general-purpose amplification.", 8 OUTP (out) "DACs noninverting output. OUTP can also be used alone for single-ended operation.", 9 OUTM (out) "DACs inverting output. OUTM is functionally identical with and complementary to OUTP.", 10 M0 (in) "Combine with M1 to select serial interface mode (frame-sync mode)", 11 M1 (in) "Combine with M0 to select serial interface mode (frame-sync mode)", 12 ~{PWRDW}~{N} (in) "Power down. When P\W\R\D\W\N\ is pulled low, the device goes into a power-down mode, the serial interface is disabled, and most of the high-speed clocks are disabled. However, all register values are sustained and the device (See Datasheet)", 13 ~{RESET} (in) "The reset function is provided to initialize all the internal registers to their default values. The serial port can be configured to the default state accordingly. See Appendix A, Register Set, and Subsection 2.2,  Reset (See Datasheet)", 14 DVSS (power) "Digital ground", 15 DVDD1 (power) "Digital power supply", 16 DOUT (hiz) "Data output. DOUT transmits the ADC output bits and registers data, and is synchronized to SCLK and FS. Data is sent out at the rising edge of SCLK when FS is low. DOUT is at high impedance when FS is not activated.", 17 DIN (in) "Data input. DIN receives the DAC input data and register data from the external digital signal processor (DSP), and is synchronized to SCLK and FS. Data is latched at the falling edge of SCLK when FS is low. DIN is at high (See Datasheet)", 18 NC "No connection", 19 SCLK (io) "Shift clock. SCLK signal clocks serial data into DIN and out of DOUT during the frame-sync interval. When configured as an output (M/S\ high), SCLK is generated internally by multiplying the frame-sync signal frequency by (See Datasheet)", 20 MCLK (in) "Master clock. MCLK derives the internal clocks of the sigma-delta analog interface circuit.", 21 FSD (out) "Frame-sync delayed output. The FSD output synchronizes a slave device to the frame sync of the master device. FSD is applied to the slave FS input and has the same duration as the master FS signal. Requires a pullup resistor (See Datasheet)", 22 FS (io) "Frame sync. When FS goes low, DIN begins receiving data bits and DOUT begins transmitting data bits. In master mode, FS is internally generated and is low during data transmission to DIN and from DOUT. In slave mode, FS is (See Datasheet)", 23 FLAG (out) "Controlled by bit D4 of control register 3. If D4=0 (default), the FLAG pin outputs the communication flag that goes low/high to indicate primary-communication/secondary-communication interval,respectively. If D4=1, the FLAG (See Datasheet)", 24 FC (in) "Hardware request for secondary communication. Tie this pin to low if not used.", 25 DCSI (in) "Direct configuration serial input for directly programming of internal control registers. Tie this pin to high if not used.", 26 ALTIN (in) "Serial input in the event monitor mode. Tie this pin to low if not used.", 27 M/~{S} (in) "Master/slave select input. When M/S\ is high, the device is the master, and when is low, it is a slave.", 28 NC "No connection", 29 DVSS (power) "Digital ground", 30 DVDD2 (power) "Digital power supply", 31 NC "No connection", 32 NC "No connection", 33 AVSS (power) "Analog ground", 34 AVDD2 (power) "Analog power supply", 35 NC "No connection", 36 NC "No connection", 37 NC "No connection", 38 FILT "Bandgap filter. FILT is provided for decoupling of the bandgap reference, and provides 2.5 V. The optimal capacitor value is 0.1  µF (ceramic). This voltage node should be loaded only with a high-impedance dc load.", 39 NC "No connection", 40 AVSS (power) "Analog ground", 41 NC "No connection", 42 AVSS (power) "Analog ground", 43 VMID (out) "Reference voltage output at AVDD/2", 44 NC "No connection", 45 AVDD1 (power) "Analog power supply", 46 AVSS (power) "Analog ground", 47 INP (in) "Noninverting input to analog modulator. INP requires an external R-C antialias filter with low output impedance if the internal antialias filter is bypassed.", 48 INM (in) "Inverting input to analog modulator. INM requires an external R-C antialias filter with low output impedance if the internal antialias filter is bypassed."